# Altium footprint library simplex_3.PcbLib: 39 footprints (part 2 of 3)
Each footprint in its own frame and in the unit in brackets; x right, y up, seen from the top. Pads: shape width x height; smd on the part's side, far side on the other; paste and mask are expansions set on the pad; w line width, h text height; cw(c..) or ccw(c..) is an arc to the next point about the centre after c.
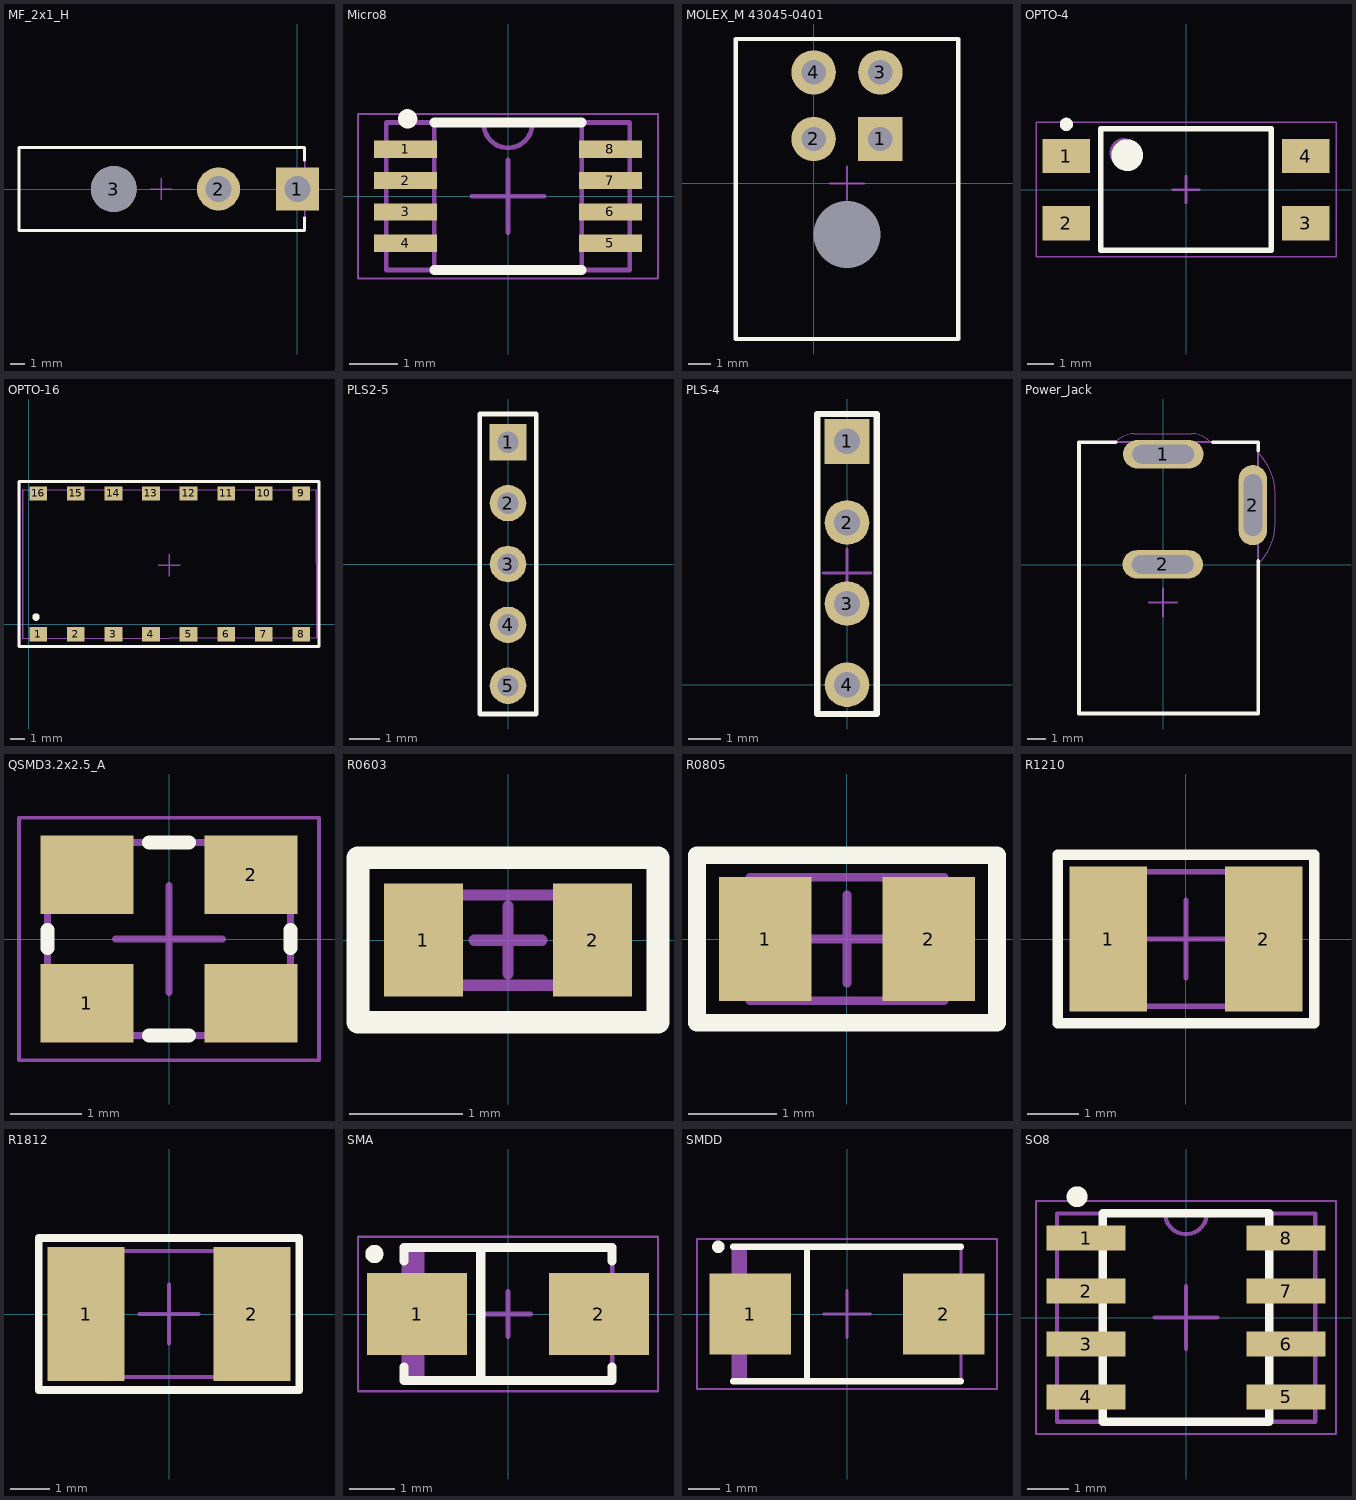
[diagram p1: the footprints below, top view; thin cyan lines are the x and y axes]

## MF_2x1_H [mm]
pads (3):
  rect 3x3 hole 1.8 mask+0: 1(0,0)
  round 3 hole 1.8 mask+0: 2(-5.5,0)
  round 3.2 hole 3.2 mask+0: 3(-12.8,0)
Top Overlay:
  lines w0.2: 0.5,-2 0.5,-2.9 -19.4,-2.9 -19.4,2.9 0.5,2.9 0.5,2
Mechanical 9:
  text ".Designator" at -10.75,0.25 h1
  text ".Comment" at -10.75,-0.75 h0.8
Mechanical 11:
  lines w0.1: -19.4,-2.9 -19.4,2.9 0.5,2.9 0.5,-2.9 -19.4,-2.9
Mechanical 15:
  lines w0.05: -19.4,-2.9 0.5,-2.9 0.5,2.9 -19.4,2.9 -19.4,-2.9
  lines w0.1: -10.25,0 -8.75,0 ; -9.5,-0.75 -9.5,0.75
3D body: height 11.4, standoff -3.6, extent -19.435,-2.9 0.5,2.9

## Micro8 [mm]
height 1.11
pads (8):
  rect 1.3x0.36 smd: 1(-2.115,0.975) 2(-2.115,0.325) 3(-2.115,-0.325) 4(-2.115,-0.975) 5(2.115,-0.975) 6(2.115,-0.325) 7(2.115,0.325) 8(2.115,0.975)
Top Overlay:
  circle w0.2: c-2.075,1.6 r0.1
  lines w0.2: -1.525,-1.525 1.525,-1.525 ; -1.525,1.525 1.525,1.525
Mechanical 9:
  text ".Designator" at -1,0.25 h1
  text ".Comment" at -1,-0.5 h0.8
Mechanical 11:
  lines w0.1: -1.525,-1.525 -1.525,1.525 ; -0.499,1.525 ccw(c0,1.5) 0.499,1.525 ; 1.525,-1.525 1.525,1.525 ; -2.515,-1.525 2.515,-1.525 2.515,1.525 -2.515,1.525 -2.515,-1.525
Mechanical 15:
  lines w0.05: -3.1,-1.7 -3.1,1.7 3.1,1.7 3.1,-1.7 -3.1,-1.7
  lines w0.1: -0.75,0 0.75,0 ; 0,-0.75 0,0.75
3D body: height 1.15, standoff 0, extent -2.425,-1.5 2.475,1.5

## MOLEX_M 43045-0401 [mm]
pads (5):
  rect 2x2 hole 1.1: 1(3,2)
  round 2 hole 1.1: 2(0,2) 3(3,5) 4(0,5)
  round 1.5 hole 3 unplated: ""(1.5,-2.3)
Top Overlay:
  lines w0.2: -3.5,-7 6.5,-7 6.5,6.5 -3.5,6.5 -3.5,-7
Mechanical 9:
  text ".Designator" at 0.5,0.25 h1
  text ".Comment" at 0.5,-0.75 h0.8
Mechanical 11:
  lines w0.1: -3.5,-7 6.5,-7 6.5,6.5 -3.5,6.5 -3.5,-7
Mechanical 15:
  lines w0.05: -3.5,-7 -3.5,6.5 6.5,6.5 6.5,-7 -3.5,-7
  lines w0.1: 0.75,0 2.25,0 ; 1.5,-0.75 1.5,0.75
3D body: height 8.83, standoff -3.12, extent -3.575,-6.95 6.575,5.29

## OPTO-4 [mm] "SOP, 4-Leads, Body 4,58x6,50mm, Pitch 2,54mm, IPC Medium Density"
height 3.7
pads (4):
  rect 1.8x1.3 smd: 1(-4.525,1.27) 2(-4.525,-1.27) 3(4.525,-1.27) 4(4.525,1.27)
Top Overlay:
  circle w0.25: c-4.525,2.47 r0.125
  circle w0.6: c-2.225,1.3 r0.3
  lines w0.2: -3.225,-2.3 -3.225,2.3 3.225,2.3 3.225,-2.3 -3.225,-2.3
Mechanical 9:
  text ".Comment" at -1,-0.75 h0.8
  text ".Designator" at -1,0.25 h1
Mechanical 11:
  circle w0.1: c-2.35,1.4 r0.5
  lines w0.1: -3.25,-2.3 -3.25,2.3 3.25,2.3 3.25,-2.3 -3.25,-2.3
Mechanical 15:
  lines w0.05: -5.675,-2.55 -5.675,2.55 5.675,2.55 5.675,-2.55 -5.675,-2.55
  lines w0.1: -0.5,0 0.5,0 ; 0,-0.5 0,0.5
3D body: height 3.75, standoff -0.07, extent -4.915,-2.315 4.965,2.265

## OPTO-16 [mm]
pads (16):
  rect 1.2x0.96 smd: 1(0.651,-0.658) 2(3.191,-0.658) 3(5.731,-0.658) 4(8.271,-0.658) 5(10.811,-0.658) 6(13.351,-0.658) 7(15.891,-0.658) 8(18.431,-0.658) 9(18.431,8.862) 10(15.891,8.862) 11(13.351,8.862) 12(10.811,8.862) 13(8.271,8.862) 14(5.731,8.862) 15(3.191,8.862) 16(0.651,8.862)
Top Overlay:
  circle w0.254: c0.5,0.5 r0.125
  lines w0.2: -0.65,-1.5 19.625,-1.5 19.625,9.675 -0.65,9.675 -0.65,-1.5
Mechanical 9:
  text ".Comment" at 8.25,3.25 h0.8
  text ".Designator" at 8.25,4.25 h1
Mechanical 11:
  lines w0.1: -0.4,-0.95 -0.4,9.1 19.425,9.075 19.475,-0.9 -0.4,-0.95
Mechanical 15:
  lines w0.05: -0.55,-1.45 -0.55,9.625 19.625,9.625 19.625,-1.45 -0.55,-1.45
  lines w0.1: 8.75,4 10.25,4 ; 9.5,3.25 9.5,4.75
3D body: height 3.85, standoff 0.03, extent -0.36,-0.907 19.46,9.093

## PLS2-5 [mm]
height 0.05
pads (5):
  rect 1.2x1.2 hole 0.7: 1(0,4)
  round 1.2 hole 0.7: 2(0,2) 3(0,0) 4(0,-2) 5(0,-4)
Top Overlay:
  lines w0.15: -0.93,-4.93 0.93,-4.93 0.93,4.93 -0.93,4.93 -0.93,-4.93
Mechanical 9:
  text ".Comment" at -0.5,1 h0.8
  text ".Designator" at 0.25,1 h1
Mechanical 11:
  lines w0.1: -0.93,-4.93 0.93,-4.93 0.93,4.93 -0.93,4.93 -0.93,-4.93
Mechanical 15:
  lines w0.05: -0.93,-4.93 -0.93,4.93 0.93,4.93 0.93,-4.93 -0.93,-4.93
  lines w0.1: -0.5,0 0.5,0 ; 0,-0.5 0,0.5

## PLS-4 [mm]
height 0.05
pads (4):
  rect 1.4x1.4 hole 0.8: 1(0,7.62)
  round 1.4 hole 0.8: 2(0,5.08) 3(0,2.54)
  round 1.4 hole 0.8 mask+0.102: 4(0,0)
Top Overlay:
  lines w0.2: -0.93,-0.92 -0.93,8.48 0.93,8.48 0.93,-0.92 -0.93,-0.92
Mechanical 9:
  text ".Comment" at -0.75,4.5 h0.8
  text ".Designator" at 0.25,4.5 h1
Mechanical 11:
  lines w0.1: -0.93,-0.92 0.93,-0.92 0.93,8.48 -0.93,8.48 -0.93,-0.92
Mechanical 15:
  lines w0.05: -0.93,-0.92 -0.93,8.48 0.93,8.48 0.93,-0.92 -0.93,-0.92
  lines w0.1: -0.75,3.5 0.75,3.5 ; 0,2.75 0,4.25

## Power_Jack [mm]
pads (3):
  oval 4.3x1.524 hole 1 slot 3.3 at 0 deg: 1(0.01,5.909) 2(-0.015,0.009)
  oval 1.524x4.3 hole 1 slot 3.3 at 90 deg: 2(4.81,3.184)
Top Overlay:
  lines w0.2: -2.55,6.55 -4.5,6.55 -4.5,-7.975 5.1,-7.975 5.1,-4.344 5.1,0.2 ; 2.681,6.55 5.1,6.55 5.1,6.1
Mechanical 9:
  text ".Comment" at -1.25,-2.5 h0.8
  text ".Designator" at -1.25,-1.75 h1
Mechanical 11:
  lines w0.1: -4.5,-7.975 -4.5,6.55 5.075,6.55 5.075,-7.975 -4.5,-7.975
Mechanical 15:
  lines w0.05: 5.075,6 5.075,6.6 2.5,6.6 ccw(c1.534,5.634) 1.534,7 0,7 -1.534,7 ccw(c-1.534,5.634) -2.5,6.6 -4.5,6.6 -4.5,-8 5.075,-8 5.102,0.027 ccw(c2.934,2.195) 6,2.195 6,3 6,3.805 ccw(c2.934,3.805) 5.102,5.973
  lines w0.1: -0.75,-2.025 0.75,-2.025 ; 0,-2.775 0,-1.275
3D body: height 11.3, standoff -4.1, extent -4.49,-7.866 5.06,6.634

## QSMD3.2x2.5_A [mm]
height 1.2
pads (4):
  rect 1.3x1.1 smd: 1(-1.15,-0.9) 2(1.15,0.9) ""(-1.15,0.9) ""(1.15,-0.9)
Top Overlay:
  lines w0.2: -1.7,-0.125 -1.7,0.125 ; -0.275,-1.35 0.275,-1.35 ; -0.275,1.35 0.275,1.35 ; 1.7,-0.125 1.7,0.125
Mechanical 9:
  text ".Comment" at -1,-0.75 h0.8
  text ".Designator" at -1,0.25 h1
Mechanical 11:
  lines w0.1: -1.7,-1.35 -1.7,1.35 1.7,1.35 1.7,-1.35 -1.7,-1.35
Mechanical 15:
  lines w0.05: -2.1,-1.7 2.1,-1.7 2.1,1.7 -2.1,1.7 -2.1,-1.7
  lines w0.1: -0.75,0 0.75,0 ; 0,-0.75 0,0.75
3D body: height 1.2, standoff 0, extent -1.7,-1.35 1.7,1.35

## R0603 [mm]
height 0.45
pads (2):
  rect 0.7x1 smd: 1(-0.75,0) 2(0.75,0)
Top Overlay:
  lines w0.2: -1.33,-0.73 1.33,-0.73 1.33,0.73 -1.33,0.73 -1.33,-0.73
Mechanical 9:
  text ".Designator" at -1,0 h1
  text ".Comment" at -1,-0.5 h0.8
Mechanical 11:
  lines w0.1: -0.9,-0.4 0.8,-0.4 0.8,0.4 -0.9,0.4 -0.9,-0.4
Mechanical 15:
  lines w0.05: -1.325,-0.725 -1.325,0.75 1.325,0.75 1.325,-0.725 -1.325,-0.725
  lines w0.1: -0.3,0 0.3,0 ; 0,-0.3 0,0.3
3D body: height 0.5, standoff 0, extent -0.85,-0.4 0.75,0.4

## R0805 [mm] "Chip Resistor, 2-Leads, Body 2,10x1,30mm, IPC Medium Density"
height 0.55
pads (2):
  rect 1.05x1.4 smd: 1(-0.925,0) 2(0.925,0)
Top Overlay:
  lines w0.2: -1.7,-0.95 1.7,-0.95 1.7,0.95 -1.7,0.95 -1.7,-0.95
Mechanical 9:
  text ".Designator" at -1,0.25 h1
  text ".Comment" at -1,-0.5 h0.8
Mechanical 11:
  lines w0.1: -1.1,-0.7 1.1,-0.7 1.1,0.7 -1.1,0.7 -1.1,-0.7
Mechanical 15:
  lines w0.05: -1.7,-0.95 -1.7,0.95 1.7,0.95 1.7,-0.95 -1.7,-0.95
  lines w0.1: -0.5,0 0.5,0 ; 0,-0.5 0,0.5
3D body: height 0.55, standoff 0, extent 0.7,-0.7 1.1,0.7
3D body: height 0.55, standoff 0, extent -1.1,-0.7 -0.7,0.7
3D body: height 0.55, standoff 0, extent -0.7,-0.7 0.7,0.7

## R1210 [mm]
height 0.55
pads (2):
  rect 1.5x2.8 smd: 1(-1.5,0) 2(1.5,0)
Top Overlay:
  lines w0.2: -2.48,-1.63 -2.48,1.63 2.48,1.63 2.48,-1.63 -2.48,-1.63
Mechanical 7:
  lines w0.1: -1.55,-1.3 1.55,-1.3 1.55,1.3 -1.55,1.3 -1.55,-1.3
Mechanical 9:
  text ".Designator" at -0.75,0.25 h1
  text ".Comment" at -0.75,-0.5 h0.8
Mechanical 11:
  lines w0.1: -1.55,-1.3 1.55,-1.3 1.55,1.3 -1.55,1.3 -1.55,-1.3
Mechanical 15:
  lines w0.05: -2.48,-1.63 2.48,-1.63 2.48,1.63 -2.48,1.63 -2.48,-1.63
  lines w0.1: -0.75,0 0.75,0 ; 0,-0.75 0,0.75
3D body: height 0.55, standoff 0, extent -1.55,-1.3 1.55,1.3

## R1812 [mm]
pads (2):
  rect 1.95x3.4 smd: 1(-2.1,0) 2(2.1,0)
Top Overlay:
  lines w0.2: -3.3,-1.925 3.3,-1.925 3.3,1.925 -3.3,1.925 -3.3,-1.925
Mechanical 9:
  text ".Comment" at -1.25,-0.5 h0.8
  text ".Designator" at -1.25,0.25 h1
Mechanical 11:
  lines w0.1: -2.325,-1.6 -2.325,1.6 2.325,1.6 2.325,-1.6 -2.325,-1.6
Mechanical 15:
  lines w0.05: -3.3,-1.925 -3.3,1.925 3.3,1.925 3.3,-1.925 -3.3,-1.925
  lines w0.1: -0.75,0 0.75,0 ; 0,-0.75 0,0.75
3D body: height 0.55, standoff 0, extent -2.325,-1.6 2.325,1.6

## SMA [mm]
height 2.67
pads (2):
  rect 2.2x1.8 smd: 1(-2,0) 2(2,0)
Top Overlay:
  circle w0.2: c-2.94,1.32 r0.1
  lines w0.2: -2.29,-1.17 -2.29,-1.46 2.29,-1.46 2.29,-1.17 ; -2.29,1.17 -2.29,1.46 2.29,1.46 2.29,1.17 ; -0.6,-1.45 -0.6,1.45
Mechanical 9:
  text ".Designator" at -0.75,0.25 h1
  text ".Comment" at -0.75,-0.5 h0.8
Mechanical 11:
  lines w0.1: -2.29,-0.82 -2.8,-0.82 -2.8,0.82 -2.29,0.82 ; -2.19,-1.44 -2.19,1.46 ; -2.09,-1.44 -2.09,1.46 ; -1.99,-1.44 -1.99,1.46 ; -1.89,-1.44 -1.89,1.46 ; 2.29,-0.82 2.8,-0.82 2.8,0.82 2.29,0.82 ; -2.29,-1.46 2.29,-1.46 2.29,1.46 -2.29,1.46 -2.29,-1.46
Mechanical 15:
  lines w0.05: -3.3,-1.7 -3.3,1.7 3.3,1.7 3.3,-1.7 -3.3,-1.7
  lines w0.1: -0.5,0 0.5,0 ; 0,-0.5 0,0.5
3D body: height 2.87, standoff 0, extent -2.29,-1.46 2.29,1.46
3D body: height 2, standoff 0, extent -2.8,-0.82 -2.29,0.82
3D body: height 2, standoff 0, extent 2.29,-0.82 2.8,0.82

## SMDD [mm]
height 2.8
pads (2):
  rect 2.6x2.6 smd: 1(-3.1,0) 2(3.1,0)
Top Overlay:
  circle w0.2: c-4.12,2.15 r0.1
  lines w0.2: -3.65,-2.15 3.65,-2.15 ; -3.65,2.15 3.65,2.15 ; -1.28,-2.15 -1.28,2.15
Mechanical 9:
  text ".Comment" at -0.75,-0.5 h0.8
  text ".Designator" at -0.75,0.25 h1
Mechanical 11:
  lines w0.1: -3.55,-2.15 -3.55,2.15 ; -3.45,-2.15 -3.45,2.15 ; -3.35,-2.15 -3.35,2.15 ; -3.25,-2.15 -3.25,2.15 ; -3.65,-2.15 3.65,-2.15 3.65,2.15 -3.65,2.15 -3.65,-2.15
Mechanical 15:
  lines w0.05: -4.8,-2.4 4.8,-2.4 4.8,2.4 -4.8,2.4 -4.8,-2.4
  lines w0.1: -0.75,0 0.75,0 ; 0,-0.75 0,0.75
3D body: height 2.9, standoff -0.02, extent -3.675,-2.225 3.625,2.075

## SO8 [mm]
height 1.75
pads (8):
  rect 1.9x0.6 smd: 1(-2.4,1.905) 2(-2.4,0.635) 3(-2.4,-0.635) 4(-2.4,-1.905) 5(2.4,-1.905) 6(2.4,-0.635) 7(2.4,0.635) 8(2.4,1.905)
Top Overlay:
  circle w0.25: c-2.615,2.9 r0.125
  lines w0.2: -2,-2.5 2,-2.5 2,2.5 -2,2.5 ; -2,-2.475 -2,2.475
Mechanical 9:
  text ".Comment" at -0.75,-0.5 h0.8
  text ".Designator" at -0.75,0.25 h1
Mechanical 11:
  lines w0.1: -2,-2.5 -2,2.5 ; -0.5,2.5 ccw(c0,2.5) 0.5,2.5 ; 2,-2.5 2,2.5 ; -3.1,-2.5 3.1,-2.5 3.1,2.5 -3.1,2.5 -3.1,-2.5
Mechanical 15:
  lines w0.05: -3.6,-2.8 -3.6,2.8 3.6,2.8 3.6,-2.8 -3.6,-2.8
  lines w0.1: -0.75,0 0.75,0 ; 0,-0.75 0,0.75
3D body: height 1.7, standoff 0, extent -3,-2.54 3,2.54